# Altium footprint library 32-6554-11.PcbLib: 1 footprints
Each footprint in its own frame and in the unit in brackets; x right, y up, seen from the top. Pads: shape width x height; smd on the part's side, far side on the other; paste and mask are expansions set on the pad; w line width, h text height; cw(c..) or ccw(c..) is an arc to the next point about the centre after c.
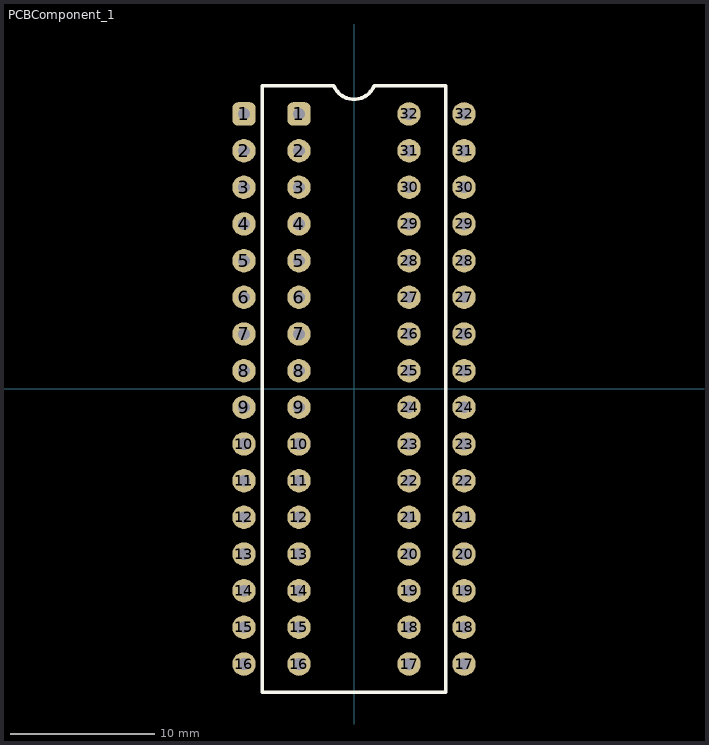
[diagram p0: the footprint, top view; thin cyan lines are the x and y axes]

## PCBComponent_1 [mil]
pads (64):
  rrect50% 64x64 hole 32: 1(-300,750) 1(-150,750)
  round 64 hole 32: 2(-300,650) 2(-150,650) 3(-300,550) 3(-150,550) 4(-300,450) 4(-150,450) 5(-300,350) 5(-150,350) 6(-300,250) 6(-150,250) 7(-300,150) 7(-150,150) 8(-300,50) 8(-150,50) 9(-300,-50) 9(-150,-50) 10(-300,-150) 10(-150,-150) 11(-300,-250) 11(-150,-250) 12(-300,-350) 12(-150,-350) 13(-300,-450) 13(-150,-450) 14(-300,-550) 14(-150,-550) 15(-300,-650) 15(-150,-650) 16(-300,-750) 16(-150,-750) 17(150,-750) 17(300,-750) 18(150,-650) 18(300,-650) 19(150,-550) 19(300,-550) 20(150,-450) 20(300,-450) 21(150,-350) 21(300,-350) 22(150,-250) 22(300,-250) 23(150,-150) 23(300,-150) 24(150,-50) 24(300,-50) 25(150,50) 25(300,50) 26(150,150) 26(300,150) 27(150,250) 27(300,250) 28(150,350) 28(300,350) 29(150,450) 29(300,450) 30(150,550) 30(300,550) 31(150,650) 31(300,650) 32(150,750) 32(300,750)
Top Overlay:
  lines w10: -250,-826.77 -250,826.77 -55,826.77 ccw(c0,849.18) 55,826.77 250,826.77 250,-826.77 -250,-826.77